# Altium schematic symbol library vol_reg.SchLib: 1 symbol
Pins are listed as number, name and electrical type; pins without a type are passive.

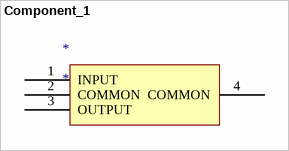
[diagram p0: symbol Component_1]

## Component_1
designator *
footprint SOT223-4
pins: 1 INPUT, 2 COMMON, 3 OUTPUT, 4 COMMON